# Altium footprint library Led_pcb_lib.PcbLib: 7 footprints
Each footprint in its own frame and in the unit in brackets; x right, y up, seen from the top. Pads: shape width x height; smd on the part's side, far side on the other; paste and mask are expansions set on the pad; w line width, h text height; cw(c..) or ccw(c..) is an arc to the next point about the centre after c.
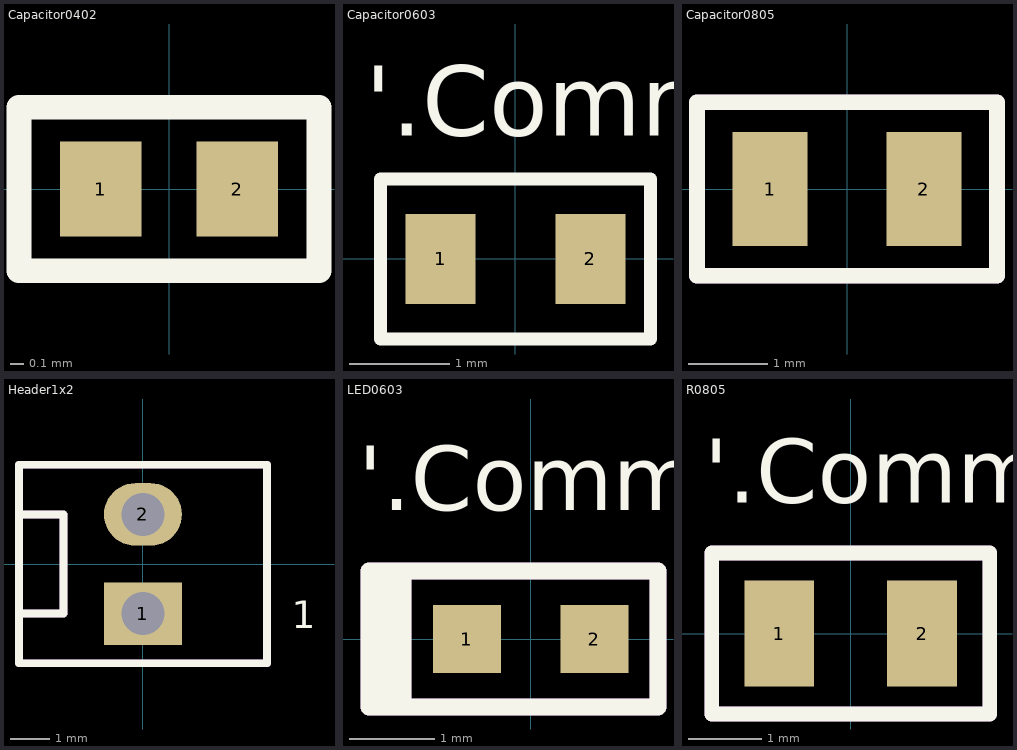
[diagram p0: the footprints below, top view; thin cyan lines are the x and y axes]

## Capacitor0402 [mm]
pads (2):
  rect 0.6x0.7 smd: 1(-0.5,0) 2(0.5,0)
Top Overlay:
  lines w0.18: -1.1,-0.6 1.1,-0.6 1.1,0.6 -1.1,0.6 -1.1,-0.6

## Capacitor0603 [mm]
pads (2):
  rect 0.7x0.9 smd: 1(-0.75,0) 2(0.75,0)
Top Overlay:
  lines w0.127: -1.35,-0.8 -1.35,0.8 1.35,0.8 1.35,-0.8 -1.35,-0.8
  text "'.Comment'" at -1.5,1 h1.2
3D body "User Library-CAPC1608X09.step": height 0.9, standoff 0, extent -0.8,-0.4 0.8,0.4

## Capacitor0805 [mm]
pads (2):
  rect 0.95x1.45 smd: 1(-0.975,0) 2(0.975,0)
Top Overlay:
  lines w0.2: -1.9,-1.1 1.9,-1.1 1.9,1.1 -1.9,1.1 -1.9,-1.1
Mechanical 29:
  lines w0.2: -1.9,-1.1 -1.9,1.1 1.9,1.1 1.9,-1.1 -1.9,-1.1
3D body "User Library-X2Y_0805_(X15).STEP": height 1.02, standoff 0, extent -1.016,-0.636 1.016,0.636

## Header1x2 [mm]
pads (2):
  rect 2x1.6 hole 1.1: 1(0,-1.27)
  oval 2x1.6 hole 1.1: 2(0,1.27)
Top Overlay:
  lines w0.2: -3.175,-1.27 -2.032,-1.27 -2.032,1.27 -3.175,1.27 ; -3.175,-2.54 3.175,-2.54 3.175,2.54 -3.175,2.54 -3.175,-2.54
  text "1" at 3.81,-1.651 h0.7
Mechanical 29:
  lines w0.2: -3.175,-1.27 -2.032,-1.27 -2.032,1.27 -3.175,1.27 ; -3.175,-2.54 -3.175,2.54 3.175,2.54 3.175,-2.54 -3.175,-2.54
  text "'.Designator'" at -2.286,3.048 h0.7
  text "1" at 3.81,-1.651 h0.7
3D body "User Library-Molex-2_54-2pin.STEP": height 11.18, standoff -3.14, extent -2.498,-2.54 3.302,2.54

## image [mm]

## LED0603 [mm]
pads (2):
  rect 0.8x0.8 smd: 1(-0.75,0) 2(0.75,0)
Top Overlay:
  rectangle: -1.9,-0.8 -1.4,0.8
  lines w0.2: -1.9,-0.8 1.5,-0.8 1.5,0.8 -1.9,0.8 -1.9,-0.8
  text "'.Comment'" at -2.032,1.27 h1.3
Mechanical 29:
  rectangle: -1.9,-0.8 -1.4,0.8
  lines w0.2: -1.9,-0.8 -1.9,0.8 1.5,0.8 1.5,-0.8 -1.9,-0.8
3D body "LED SMD0603.step": height 0.68, standoff 0, extent -0.825,-0.368 0.825,0.357

## R0805 [mm]
pads (2):
  rect 0.95x1.45 smd: 1(-0.975,0) 2(0.975,0)
Top Overlay:
  lines w0.2: -1.9,-1.1 1.9,-1.1 1.9,1.1 -1.9,1.1 -1.9,-1.1
  text "'.Comment'" at -2,1.5 h1.5
Mechanical 29:
  lines w0.2: -1.9,-1.1 -1.9,1.1 1.9,1.1 1.9,-1.1 -1.9,-1.1
3D body "Res_Vishay_CRCW0805_2012.step": height 0.46, standoff 0.01, extent -1,-0.625 1,0.625